# Altium schematic symbol library LIS3DH.SchLib: 1 symbol
Pins are listed as number, name and electrical type; pins without a type are passive.

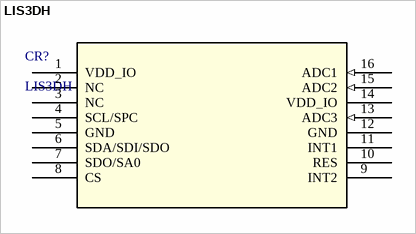
[diagram p0: symbol LIS3DH]

## LIS3DH
designator CR?
3-axis MEMS accelerometer, ultra-low-power,  &#177;2g/&#177;4g/&#177;8g/&#177;16g full scale, high-speed I2C/SPI digital output, embedded FIFO, high-performance acceleration sensor, LLGA 16 3x3x1.0 package; Manufacturer_Name: STMicroelectronics; Copyright: Copyright (C) 2025 Ultra Librarian. All rights reserved.; Manufacturer_Part_Number: LIS3DH; RefDes: RefDes; Type: Type
footprint LGA-16_3x3x1mm_STM
pins: 1 VDD_IO (power), 2 NC, 3 NC, 4 SCL/SPC, 5 GND (power), 6 SDA/SDI/SDO, 7 SDO/SA0, 8 CS, 9 INT2, 10 RES, 11 INT1, 12 GND (power), 13 ADC3 (in), 14 VDD_IO (power), 15 ADC2 (in), 16 ADC1 (in)